# Altium schematic symbol library SCH - ARM CORTEX - NXP LPC812M101JTB16.SchLib: 1 symbol
Pins are listed as number, name and electrical type; pins without a type are passive.

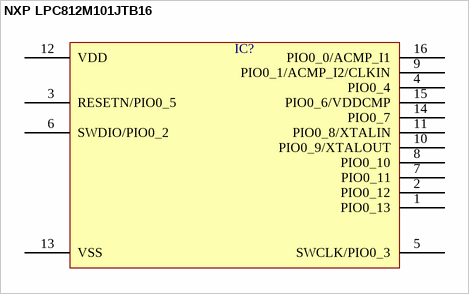
[diagram p0: symbol NXP LPC812M101JTB16]

## NXP LPC812M101JTB16
designator IC?  (value not drawn)
pins: 1 PIO0_13, 2 PIO0_12, 3 RESETN/PIO0_5, 4 PIO0_4, 5 SWCLK/PIO0_3, 6 SWDIO/PIO0_2, 7 PIO0_11, 8 PIO0_10, 9 PIO0_1/ACMP_I2/CLKIN, 10 PIO0_9/XTALOUT, 11 PIO0_8/XTALIN, 12 VDD, 13 VSS, 14 PIO0_7, 15 PIO0_6/VDDCMP, 16 PIO0_0/ACMP_I1